# Altium footprint library Reguladores_PCBLIB.PcbLib: 24 footprints (part 1 of 2)
Each footprint in its own frame and in the unit in brackets; x right, y up, seen from the top. Pads: shape width x height; smd on the part's side, far side on the other; paste and mask are expansions set on the pad; w line width, h text height; cw(c..) or ccw(c..) is an arc to the next point about the centre after c.
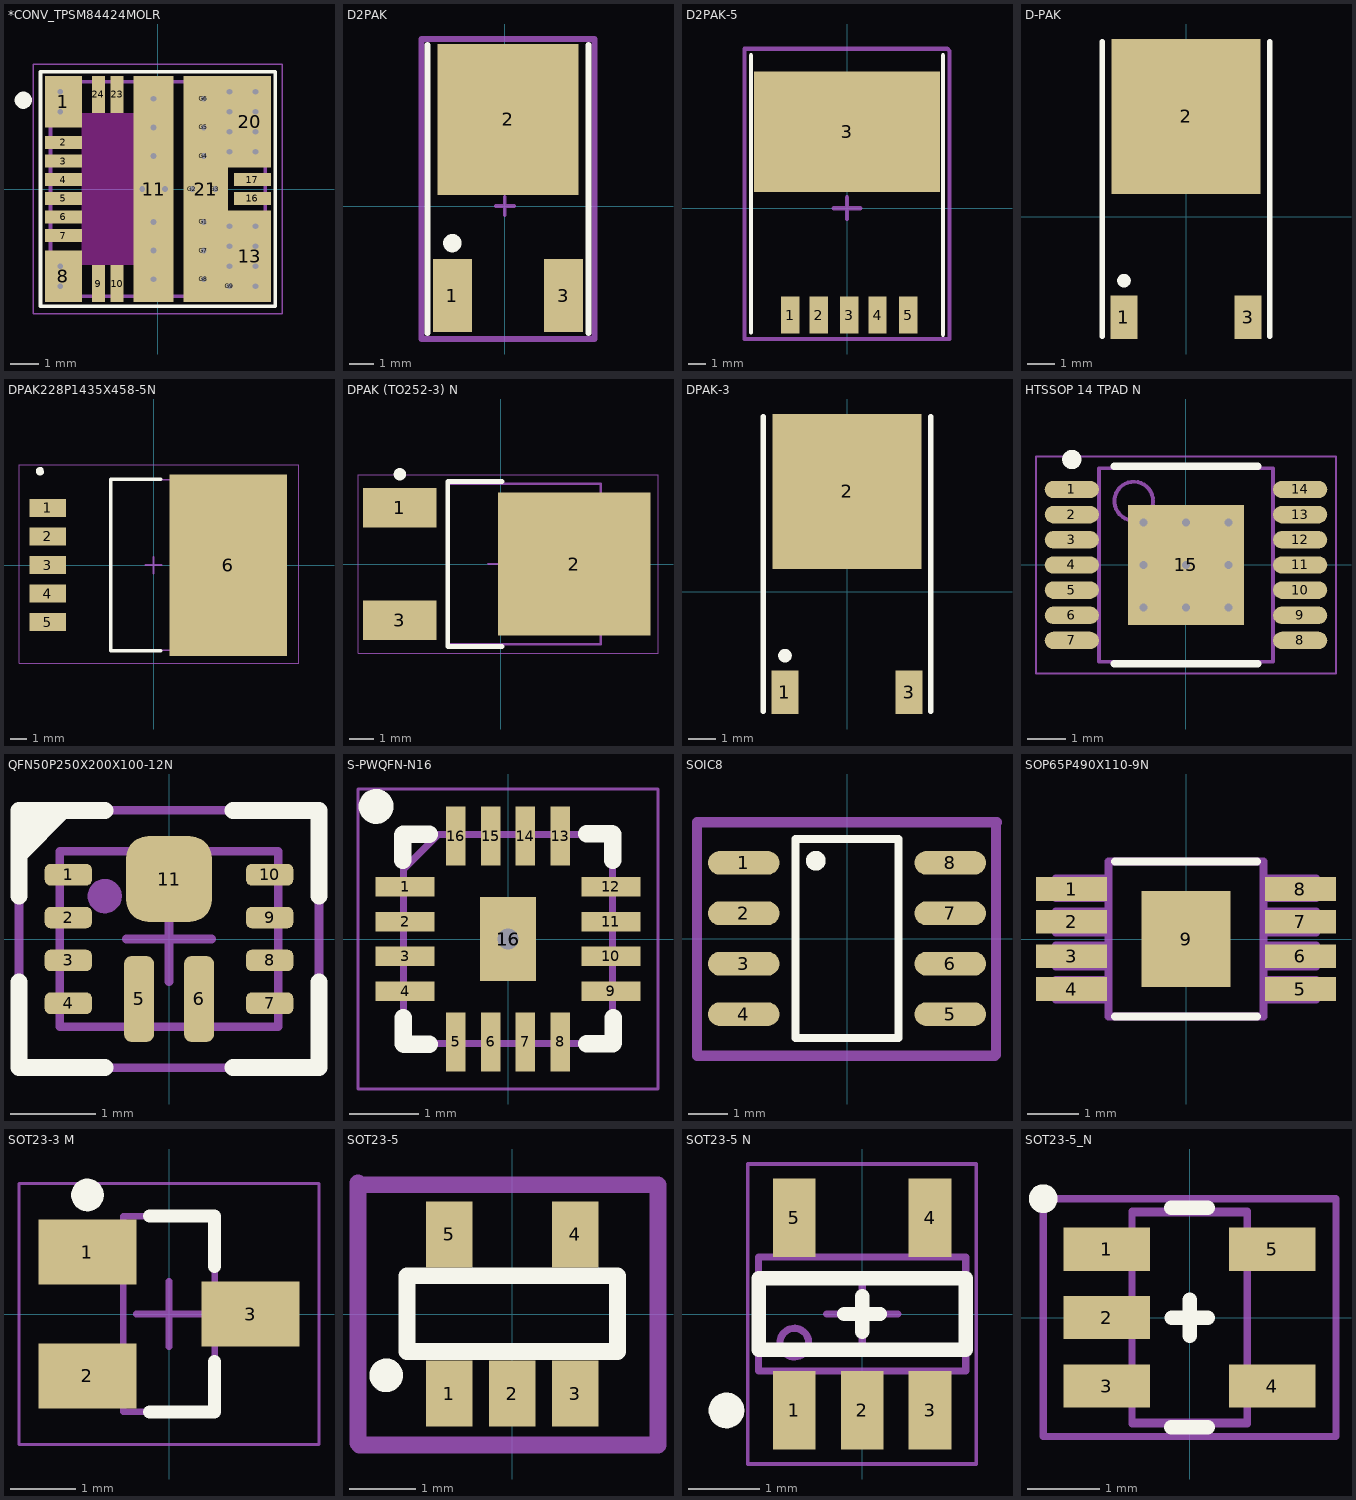
[diagram p0: the footprints below, top view; thin cyan lines are the x and y axes]

## *CONV_TPSM84424MOLR [mm]
pads (54):
  rect 1.3x1.8 smd: 1(-3.3,3.05) 8(-3.3,-3.05)
  round 0.35 hole 0.2: 1.1(-3.41,3.4) 1.2(-3.41,2.7) 8.1(-3.41,-2.7) 8.2(-3.41,-3.4) 11.1(-0.15,-3.15) 11.2(-0.15,-2.15) 11.3(-0.15,-1.15) 11.4(-0.15,1.15) 11.5(-0.15,2.15) 11.6(-0.15,3.15) 11.7(-0.55,0) 11.8(0.25,0) G1(1.6,-1.15) G2(1.2,0) G3(2,0) G4(1.6,1.15) G5(1.6,2.15) G6(1.6,3.15) G7(1.6,-2.15) G8(1.6,-3.15) G9(2.5,-3.4) G10(2.5,-2.7) G11(2.5,-2) G12(2.5,-1.3) G13(3.41,-1.3) G14(3.41,-2) G15(2.5,2) G16(2.5,1.3) G18(2.5,2.7) G19(2.5,3.4) G20(3.41,3.4) G21(3.41,2.7) G22(3.41,2) G23(3.41,1.3) G24(3.41,-2.7) G25(3.41,-3.4)
  rect 1.3x0.45 smd: 2(-3.3,1.625) 3(-3.3,0.975) 4(-3.3,0.325) 5(-3.3,-0.325) 6(-3.3,-0.975) 7(-3.3,-1.625) 16(3.3,-0.325) 17(3.3,0.325)
  rect 0.45x1.3 smd: 9(-2.075,-3.3) 10(-1.425,-3.3) 23(-1.425,3.3) 24(-2.075,3.3)
  rect 1.4x7.9 smd: 11(-0.15,0)
  rect 1.5x3.2 smd: 13(3.2,-2.35) 20(3.2,2.35)
  rect 1.55x7.9 smd: 21(1.675,0)
Top Overlay:
  circle w0.3: c-4.7,3.1 r0.15
  lines w0.127: -4.1,-4.1 4.1,-4.1 4.1,4.1 -4.1,4.1 -4.1,-4.1
Top Paste:
  region: -3.856,3.85 -2.75,3.85 -2.75,2.253 -3.856,2.253
  region: -3.854,-2.25 -2.75,-2.25 -2.75,-3.854 -3.854,-3.854
  region: 2.752,3.85 3.85,3.85 3.85,2.252 2.752,2.252
  region: 2.751,-2.25 3.85,-2.25 3.85,-3.852 2.751,-3.852
  region: -3.903,1.8 -2.7,1.8 -2.7,1.451 -3.903,1.451
  region: -3.905,1.15 -2.7,1.15 -2.7,0.801 -3.905,0.801
  region: -3.9,0.5 -2.7,0.5 -2.7,0.15 -3.9,0.15
  region: -3.905,-0.15 -2.7,-0.15 -2.7,-0.501 -3.905,-0.501
  region: -3.904,-0.8 -2.7,-0.8 -2.7,-1.151 -3.904,-1.151
  region: -3.901,-1.45 -2.7,-1.45 -2.7,-1.8 -3.901,-1.8
  region: -2.255,-3.905 -2.255,-2.701 -1.899,-2.701 -1.899,-3.905
  region: -1.605,-3.905 -1.605,-2.701 -1.249,-2.701 -1.249,-3.905
  region: 2.705,-0.15 3.9,-0.15 3.9,-0.501 2.705,-0.501
  region: -1.599,2.701 -1.599,3.903 -1.253,3.903 -1.253,2.701
  region: -2.25,2.7 -2.25,3.904 -1.904,3.904 -1.904,2.7
  region: 2.704,0.5 3.9,0.5 3.9,0.15 2.704,0.15
  region: 2.701,-1.45 3.9,-1.45 3.9,-1.801 2.701,-1.801
  region: 2.7,-0.8 3.9,-0.8 3.9,-1.15 2.7,-1.15
  region: 2.703,1.15 3.9,1.15 3.9,0.801 2.703,0.801
  region: 2.702,1.8 3.9,1.8 3.9,1.451 2.702,1.451
  region: -0.751,3.85 0.45,3.85 0.45,2.254 -0.751,2.254
  region: -0.751,-2.25 0.45,-2.25 0.45,-3.854 -0.751,-3.854
  region: -0.751,2.05 0.45,2.05 0.45,0.45 -0.751,0.45
  region: -0.75,-0.45 0.45,-0.45 0.45,-2.051 -0.75,-2.051
  region: 1.001,3.85 2.2,3.85 2.2,2.252 1.001,2.252
  region: 1.002,-2.25 2.2,-2.25 2.2,-3.858 1.002,-3.858
  region: 1,2.05 2.2,2.05 2.2,0.45 1,0.45
  region: 1,-0.45 2.2,-0.45 2.2,-2.051 1,-2.051
Top Solder:
  region: -3.907,3.9 -2.7,3.9 -2.7,2.204 -3.907,2.204
  region: -3.903,-2.2 -2.7,-2.2 -2.7,-3.903 -3.903,-3.903
  region: 2.703,3.9 3.9,3.9 3.9,2.203 2.703,2.203
  region: 2.702,-2.2 3.9,-2.2 3.9,-3.903 2.702,-3.903
  region: -3.902,1.8 -2.7,1.8 -2.7,1.451 -3.902,1.451
  region: -3.905,1.15 -2.7,1.15 -2.7,0.801 -3.905,0.801
  region: -3.905,0.5 -2.7,0.5 -2.7,0.15 -3.905,0.15
  region: -3.902,-0.15 -2.7,-0.15 -2.7,-0.5 -3.902,-0.5
  region: -3.902,-0.8 -2.7,-0.8 -2.7,-1.151 -3.902,-1.151
  region: -3.905,-1.45 -2.7,-1.45 -2.7,-1.802 -3.905,-1.802
  region: -2.253,-3.903 -2.253,-2.7 -1.9,-2.7 -1.9,-3.903
  region: -1.605,-3.905 -1.605,-2.701 -1.249,-2.701 -1.249,-3.905
  region: 2.705,-0.15 3.9,-0.15 3.9,-0.501 2.705,-0.501
  region: -1.599,2.701 -1.599,3.905 -1.255,3.905 -1.255,2.701
  region: -2.25,2.7 -2.25,3.905 -1.905,3.905 -1.905,2.7
  region: 2.705,0.5 3.9,0.5 3.9,0.15 2.705,0.15
  region: 2.7,-1.45 3.9,-1.45 3.9,-1.8 2.7,-1.8
  region: 2.702,-0.8 3.9,-0.8 3.9,-1.151 2.702,-1.151
  region: 2.702,1.15 3.9,1.15 3.9,0.801 2.702,0.801
  region: 2.702,1.8 3.9,1.8 3.9,1.451 2.702,1.451
  region: -0.8,3.9 0.5,3.9 0.5,0.4 -0.8,0.4
  region: -0.801,-0.4 0.5,-0.4 0.5,-3.903 -0.801,-3.903
  region: 0.952,3.9 2.25,3.9 2.25,0.401 0.952,0.401
  region: 0.95,-0.4 2.25,-0.4 2.25,-3.9 0.95,-3.9
Keep-Out Layer:
  region: -2.651,2.65 -0.85,2.65 -0.85,-2.651 -2.651,-2.651
  region: -2.651,2.65 -0.85,2.65 -0.85,-2.651 -2.651,-2.651
  region: -2.651,2.65 -0.85,2.65 -0.85,-2.651 -2.651,-2.651
Mechanical 13:
  lines w0.127: -3.75,-3.75 -3.75,3.75 ; -3.75,-3.75 3.75,-3.75 ; -3.75,-3.75 -3.75,3.75 ; -3.75,-3.75 3.75,-3.75 ; -3.75,3.75 3.75,3.75 ; -3.75,3.75 3.75,3.75 ; 3.75,-3.75 3.75,3.75 ; 3.75,-3.75 3.75,3.75
Mechanical 15:
  lines w0.05: -4.35,-4.35 4.35,-4.35 4.35,4.35 -4.35,4.35 -4.35,-4.35
3D body "MOL0024A.stp": height 4.01, standoff 0, extent -3.751,-3.75 3.751,3.75

## D2PAK [mm]
pads (3):
  rect 1.6x3 smd: 1(-2.159,-3.683) 3(2.413,-3.683)
  rect 5.8x6.2 smd: 2(0.127,3.556)
Top Overlay:
  circle w0.55: c-2.159,-1.524 r0.1
  lines w0.254: -3.175,-5.207 -3.175,6.604 ; 3.429,-5.207 3.429,6.604
Mechanical 15:
  lines w0.15: -0.381,0 0.381,0 ; 0,-0.381 0,0.381
  lines w0.254: -3.429,-5.461 3.683,-5.461 3.683,6.858 -3.429,6.858 -3.429,-5.461
3D body "TO-252AA.stp": height 2.4, standoff 0, extent -3.211,-3.937 3.465,6.463

## D2PAK-5 [mm]
pads (6):
  rect 1.07x2.16 smd: 1(-3.302,-6.223) 2(-1.651,-6.223) 3(0.127,-6.223) 4(1.778,-6.223) 5(3.556,-6.223)
  rect 10.8x6.99 smd: 3(0,4.445)
Top Overlay:
  lines w0.254: -5.588,-7.239 -5.588,8.89 ; 5.588,-7.366 5.588,8.89
Mechanical 15:
  lines w0.254: -0.762,0 0.762,0 ; 0,-0.635 0,0.635 ; -5.969,-7.62 5.969,-7.62 5.969,9.144 5.842,9.271 -5.969,9.271 -5.969,-7.62
3D body "TO-263BA.stp": height 4.8, standoff 0, extent -5.309,-6.782 5.334,9.068

## D-PAK [mm] "D-PAK/TO-252-AA; 3 Leads (1 Cropped); Body 10.3 (inc. leads) x 6.7 mm (LxW max)"
height 2.38
pads (3):
  rect 1x1.6 smd: 1(-2.285,-3.7) 3(2.285,-3.7)
  rect 5.5x5.7 smd: 2(0,3.7)
Top Overlay:
  circle w0.25: c-2.285,-2.35 r0.125
  lines w0.2: -3.085,-4.4 -3.085,6.45 ; 3.085,-4.4 3.085,6.45
3D body "d-pak.STEP": height 2.34, standoff -0.08, extent -3.277,-4.385 3.263,5.553

## DPAK228P1435X458-5N [mm] "D2-PAK, 5-Pads, Body 7,42x8,44mm (max), IPC Medium Density"
height 4.58
pads (6):
  rect 2.16x1.07 smd: 1(-6.29,3.4) 2(-6.29,1.7) 3(-6.29,0) 4(-6.29,-1.7) 5(-6.29,-3.4)
  rect 6.99x10.8 smd: 6(4.445,0)
Top Overlay:
  lines w0.2: 0.45,-5.1 -2.55,-5.1 -2.55,5.1 0.45,5.1
  lines w0.25: -6.673,5.683 ccw(c-6.75,5.585) -6.625,5.585
Mechanical 13:
  lines w0.1: -2.55,-5.075 6.09,-5.075 6.09,5.075 -2.55,5.075 -2.55,-5.075
Mechanical 15:
  lines w0.05: -8.001,-5.842 -8.001,5.969 8.636,5.969 8.636,-5.842 -8.001,-5.842
  lines w0.1: -0.5,0 0.5,0 ; 0,-0.5 0,0.5
3D body: height 4.58, standoff 0, extent -8.026,-5.867 8.661,5.994

## DPAK (TO252-3) N [mm] "D-PAK, 3-Pads, Body 6,21x6,73mm (max), IPC Medium Density"
height 2.38
pads (3):
  rect 3x1.6 smd: 1(-4.1,2.285) 3(-4.1,-2.285)
  rect 6.2x5.8 smd: 2(3,0)
Top Overlay:
  circle w0.25: c-4.1,3.65 r0.125
  lines w0.2: 0.05,-3.35 -2.15,-3.35 -2.15,3.35 0.05,3.35
Mechanical 13:
  lines w0.1: -2.15,-3.27 -2.15,3.27 4.07,3.27 4.07,-3.27 -2.15,-3.27
Mechanical 15:
  lines w0.05: -5.8,-3.625 -5.8,3.625 6.4,3.625 6.4,-3.625 -5.8,-3.625
  lines w0.1: -0.5,0 0.5,0 ; 0,-0.5 0,0.5
Mechanical 29:
  text ".Designator" at 0,0 h1
3D body "TO252-3.STEP": height 2.39, standoff -0.02, extent -4.861,-3.27 5.078,3.27

## DPAK-3 [mm] "D-PAK/TO-252-AA; 3 Leads (1 Cropped); Body 10.3 (inc. leads) x 6.7 mm (LxW max)"
height 2.38
pads (3):
  rect 1x1.6 smd: 1(-2.285,-3.7) 3(2.285,-3.7)
  rect 5.5x5.7 smd: 2(0,3.7)
Top Overlay:
  circle w0.25: c-2.285,-2.35 r0.125
  lines w0.2: -3.085,-4.4 -3.085,6.45 ; 3.085,-4.4 3.085,6.45
3D body "d-pak.STEP": height 2.34, standoff -0.08, extent -3.277,-4.385 3.263,5.553

## HTSSOP 14 TPAD N [mm] "TSOP, 14-Leads, Body 5,00x4,40mm, Pitch 0,65mm, Thermal Pad 3,10x3,00mm, IPC Medium Density"
height 1.1
pads (15):
  oval 1.4x0.45 smd: 1(-2.95,1.95) 2(-2.95,1.3) 3(-2.95,0.65) 4(-2.95,0) 5(-2.95,-0.65) 6(-2.95,-1.3) 7(-2.95,-1.95) 8(2.95,-1.95) 9(2.95,-1.3) 10(2.95,-0.65) 11(2.95,0) 12(2.95,0.65) 13(2.95,1.3) 14(2.95,1.95)
  rect 3x3.1 smd: 15(0,0)
via -1.1,1.1 diameter 0.5 hole 0.2
via 0,1.1 diameter 0.5 hole 0.2
via 1.1,1.1 diameter 0.5 hole 0.2
via -1.1,0 diameter 0.5 hole 0.2
via 0,0 diameter 0.5 hole 0.2
via 1.1,0 diameter 0.5 hole 0.2
via -1.1,-1.1 diameter 0.5 hole 0.2
via 0,-1.1 diameter 0.5 hole 0.2
via 1.1,-1.1 diameter 0.5 hole 0.2
Top Overlay:
  circle w0.25: c-2.95,2.725 r0.125
  lines w0.2: -1.85,-2.55 1.85,-2.55 ; -1.85,2.55 1.85,2.55
Mechanical 13:
  circle w0.1: c-1.35,1.65 r0.5
  lines w0.1: -2.25,-2.5 -2.25,2.5 2.25,2.5 2.25,-2.5 -2.25,-2.5
Mechanical 15:
  lines w0.05: -3.875,-2.8 -3.875,2.8 3.875,2.8 3.875,-2.8 -3.875,-2.8
  lines w0.1: -0.5,0 0.5,0 ; 0,-0.5 0,0.5
Mechanical 29:
  text ".Designator" at 0,0 h1
3D body "HTSSOP 14.STEP": height 1.1, standoff 0, extent -3.2,-2.5 3.2,2.5

## QFN50P250X200X100-12N [mm] "QFN, 12-Leads, Body 2,50x2,00mm, Pitch 0,70mm/0,50mm, IPC Medium Density"
height 1
pads (11):
  rrect50% 0.55x0.25 smd: 1(-1.175,0.75) 2(-1.175,0.25) 3(-1.175,-0.25) 4(-1.175,-0.75) 7(1.175,-0.75) 8(1.175,-0.25) 9(1.175,0.25) 10(1.175,0.75)
  rrect50% 0.35x1 smd: 5(-0.35,-0.7) 6(0.35,-0.7)
  rrect50% 1x1 smd: 11(0,0.7)
Top Overlay:
  region: -1.75,1.5 -1.75,0.85 -1.1,1.5
  lines w0.2: -1.75,-0.5 -1.75,-1.5 -0.75,-1.5 ; -1.75,0.5 -1.75,1.5 -0.75,1.5 ; 0.75,-1.5 1.75,-1.5 1.75,-0.5 ; 0.75,1.5 1.75,1.5 1.75,0.5
Mechanical 13:
  circle w0.2: c-0.75,0.5 r0.1
  lines w0.1: -1.275,-1.025 1.275,-1.025 1.275,1.025 -1.275,1.025 -1.275,-1.025
Mechanical 15:
  lines w0.1: -0.5,0 0.5,0 ; 0,-0.5 0,0.5 ; -1.75,-1.5 1.75,-1.5 1.75,1.5 -1.75,1.5 -1.75,-1.5
3D body "VQFN_TPS61089.STEP": height 0.95, standoff -0.03, extent -1.275,-1.025 1.275,1.025

## S-PWQFN-N16 [mm] "RTE"
pads (18):
  rect 0.85x0.28 smd: 1(-1.475,0.75) 2(-1.475,0.25) 3(-1.475,-0.25) 4(-1.475,-0.75) 9(1.475,-0.75) 10(1.475,-0.25) 11(1.475,0.25) 12(1.475,0.75)
  rect 0.28x0.85 smd: 5(-0.75,-1.475) 6(-0.25,-1.475) 7(0.25,-1.475) 8(0.75,-1.475) 13(0.75,1.475) 14(0.25,1.475) 15(-0.25,1.475) 16(-0.75,1.475)
  rect 0.8x1.2 smd: 16(0,0)
  round 0.6 hole 0.3: 16(0,0)
Top Overlay:
  circle w0.25: c-1.89,1.9 r0.125
  lines w0.254: -1.51,1.13 -1.51,1.49 -1.5,1.5 -1.13,1.5 ; -1.5,-1.13 -1.5,-1.5 -1.49,-1.51 -1.13,-1.51 ; 1.13,-1.5 1.5,-1.5 1.51,-1.49 1.51,-1.13 ; 1.13,1.51 1.49,1.51 1.5,1.5 1.5,1.13
Mechanical 13:
  lines w0.1: -1.5,1 -1,1.5 ; -1.5,-1.5 -1.5,1.5 1.5,1.5 1.5,-1.5 -1.5,-1.5
Mechanical 15:
  lines w0.05: -2.15,-2.15 -2.15,2.15 2.15,2.15 2.15,-2.15 -2.15,-2.15
3D body "TPS43061RTER.stp": height 0.8, standoff 0, extent -1.55,-1.55 1.55,1.55

## SOIC8 [mm] "8-Pin Plastic Narrow Body Small Outline Integrated Circuit 1.27 mm Pitch, IPC Medium Density"
height 1.76
pads (8):
  oval 1.8x0.6 smd: 1(-2.6,1.905) 2(-2.6,0.635) 3(-2.6,-0.635) 4(-2.6,-1.905) 5(2.6,-1.905) 6(2.6,-0.635) 7(2.6,0.635) 8(2.6,1.905)
Top Overlay:
  circle w0.25: c-0.785,1.956 r0.125
  lines w0.2: -1.3,-2.5 1.3,-2.5 1.3,2.5 -1.3,2.5 -1.3,-2.5
Mechanical 15:
  lines w0.254: -3.775,-2.95 -3.775,2.925 3.775,2.925 3.75,2.9 3.75,-2.925 3.725,-2.95 -3.775,-2.95
3D body "soic8.step": height 1.88, standoff -0.03, extent -3.093,-2.489 3.246,2.515

## SOP65P490X110-9N [mil]
pads (9):
  rect 54x18 smd: 1(-87,38) 2(-87,13) 3(-87,-13) 4(-87,-38) 5(87,-38) 6(87,-13) 7(87,13) 8(87,38)
  rect 68x73 smd: 9(0,0)
Top Overlay:
  lines w6: -54,-59 54,-59 ; -54,59 -12,59 12,59 54,59
Mechanical 13:
  lines w6: -99,-46 -99,-31 -59,-31 -59,-46 -99,-46 ; -99,-21 -99,-5 -59,-5 -59,-21 -99,-21 ; -99,5 -99,21 -59,21 -59,5 -99,5 ; -99,31 -99,46 -59,46 -59,31 -99,31 ; -59,-59 -59,59 -12,59 12,59 59,59 59,-59 -59,-59 ; 59,-46 59,-31 99,-31 99,-46 59,-46 ; 59,-21 59,-5 99,-5 99,-21 59,-21 ; 59,5 59,21 99,21 99,5 59,5 ; 59,31 59,46 99,46 99,31 59,31
3D body "DGN0008A.stp": height 33.19, standoff -4.82, extent -96.5,-59 96.5,59

## SOT23-3 M [mm] "SOT23, 3-Leads, Body 2,90x2,30mm, Pitch 0,95mm, IPC Low Density"
height 1.1
pads (3):
  rect 1.5x1 smd: 1(-1.25,0.95) 2(-1.25,-0.95) 3(1.25,0)
Top Overlay:
  circle w0.25: c-1.25,1.825 r0.125
  lines w0.2: -0.3,-1.5 0.7,-1.5 0.7,-0.725 ; -0.3,1.5 0.7,1.5 0.7,0.725
Mechanical 13:
  lines w0.1: -0.7,-1.5 -0.7,1.5 0.7,1.5 0.7,-1.5 -0.7,-1.5
Mechanical 15:
  lines w0.05: -2.3,-2 -2.3,2 2.3,2 2.3,-2 -2.3,-2
  lines w0.1: -0.5,0 0.5,0 ; 0,-0.5 0,0.5
3D body "SOT95P230X110-3M.step": height 1.1, standoff 0, extent -1.3,-1.5 1.3,1.5

## SOT23-5 [mm] "Regulador 3.3v"
pads (5):
  rect 0.7x1 smd: 1(-0.95,-1.2) 2(0,-1.2) 3(0.95,-1.2) 4(0.95,1.2) 5(-0.95,1.2)
Top Overlay:
  circle w0.254: c-1.9,-0.925 r0.127
  lines w0.254: -1.585,-0.565 1.59,-0.565 1.59,0.578 -1.585,0.578 -1.585,-0.565
Mechanical 15:
  lines w0.254: 2.2,1.95 2.2,-1.975 -2.3,-1.975 -2.325,-1.95 -2.325,1.975 -2.3,1.95 2.2,1.95 ; 2.2,1.95 2.2,1.95
3D body "User Library-SOT23-5-1.STEP": height 1.32, standoff 0.02, extent -1.5,-1.55 1.5,1.45

## SOT23-5 N [mm] "SOT23-5 N"
height 0.85
pads (5):
  rect 0.6x1.1 smd: 1(-0.95,-1.35) 2(0,-1.35) 3(0.95,-1.35) 4(0.95,1.35) 5(-0.95,1.35)
Top Overlay:
  circle w0.25: c-1.9,-1.35 r0.125
  lines w0.2: -0.25,0 0.25,0 ; 0,-0.25 0,0.25 ; -1.45,-0.5 -1.45,0.5 1.45,0.5 1.45,-0.5 -1.45,-0.5
Mechanical 13:
  circle w0.1: c-0.95,-0.4 r0.2
  lines w0.1: -1.45,-0.8 -1.45,0.8 1.45,0.8 1.45,-0.8 -1.45,-0.8
Mechanical 15:
  lines w0.05: -1.6,-2.1 1.6,-2.1 1.6,2.1 -1.6,2.1 -1.6,-2.1
  lines w0.1: -0.5,0 0.5,0 ; 0,-0.5 0,0.5
Mechanical 29:
  text ".Designator" at 0,0 h1
3D body "User Library-SOT23-5-2.step": height 1.45, standoff 0, extent -1.45,-1.4 1.45,1.4

## SOT23-5_N [mm] "SOT23-5, 5-Leads, Body 2.95x1.6mm, Pitch 0.95mm, IPC Medium Density"
height 1.3
pads (5):
  rect 1.2x0.6 smd: 1(-1.15,0.95) 2(-1.15,0) 3(-1.15,-0.95) 4(1.15,-0.95) 5(1.15,0.95)
Top Overlay:
  circle w0.2: c-2.032,1.651 r0.1
  lines w0.2: -0.254,-1.524 0.254,-1.524 ; -0.254,1.524 0.254,1.524 ; -0.25,0 0.25,0 ; 0,-0.25 0,0.25
Mechanical 13:
  lines w0.1: -0.8,-1.45 0.8,-1.45 0.8,1.45 -0.8,1.45 -0.8,-1.45
Mechanical 15:
  lines w0.1: -0.254,0 0.254,0 ; 0,-0.254 0,0.254 ; -2.032,-1.651 -2.032,1.651 2.032,1.651 2.032,-1.651 -2.032,-1.651
Mechanical 29:
  lines w0.1: -0.8,-1.475 -0.8,1.475 0.8,1.475 0.8,-1.475 -0.8,-1.475
  text ".Designator" at -0.508,1.397 h1
3D body "User Library-SOT23-5-2.step": height 1.45, standoff 0, extent -1.4,-1.45 1.4,1.45